# EAGLE library part LIS2DW12TR (library Accelerometers)
Accelerometers MEMS digital output motion sensor:high-performance ultra-low-power 3-axis "femto" accelerometer Source: Datasheet <https://componentsearchengine.com/Datasheets/1/LIS2DW12TR.pdf>
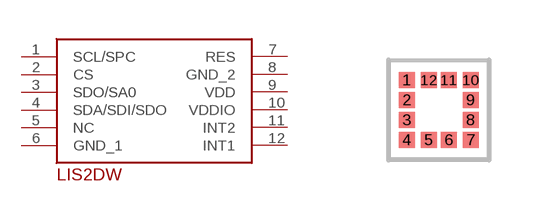
[diagram p1: symbol with the pads of LGA-12; footprint LGA-12]

Designator prefix IC

## LIS2DW12TR (DESCRIPTION: Accelerometers MEMS digital output motion sensor:high-performance ultra-low-power 3-axis "femto" accelerometer; HEIGHT: mm; MANUFACTURER_NAME: STMicroelectronics; MANUFACTURER_PART_NUMBER: LIS2DW12TR; MOUSER_PART_NUMBER: 511-LIS2DW12TR; MOUSER_PRICE-STOCK: https://www.mouser.com/Search/Refine.aspx?Keyword=511-LIS2DW12TR)  [LGA-12]
1  SCL/SPC
2  CS
3  SDO/SA0
4  SDA/SDI/SDO
5  NC  nc
6  GND_1
7  RES
8  GND_2
9  VDD
10  VDDIO
11  INT2
12  INT1

## Footprint LGA-12 (pad centres in mm)
LGA-12
smd 0.4 x 0.4: 1 -0.8,0.75; 2 -0.8,0.25; 3 -0.8,-0.25; 4 -0.8,-0.75; 5 -0.25,-0.75; 6 0.25,-0.75; 7 0.8,-0.75; 8 0.8,-0.25; 9 0.8,0.25; 10 0.8,0.75; 11 0.25,0.75; 12 -0.25,0.75